# Altium footprint library HEADER_M_2x5_1.27_SMD.PcbLib: 1 footprints
Each footprint in its own frame and in the unit in brackets; x right, y up, seen from the top. Pads: shape width x height; smd on the part's side, far side on the other; paste and mask are expansions set on the pad; w line width, h text height; cw(c..) or ccw(c..) is an arc to the next point about the centre after c.
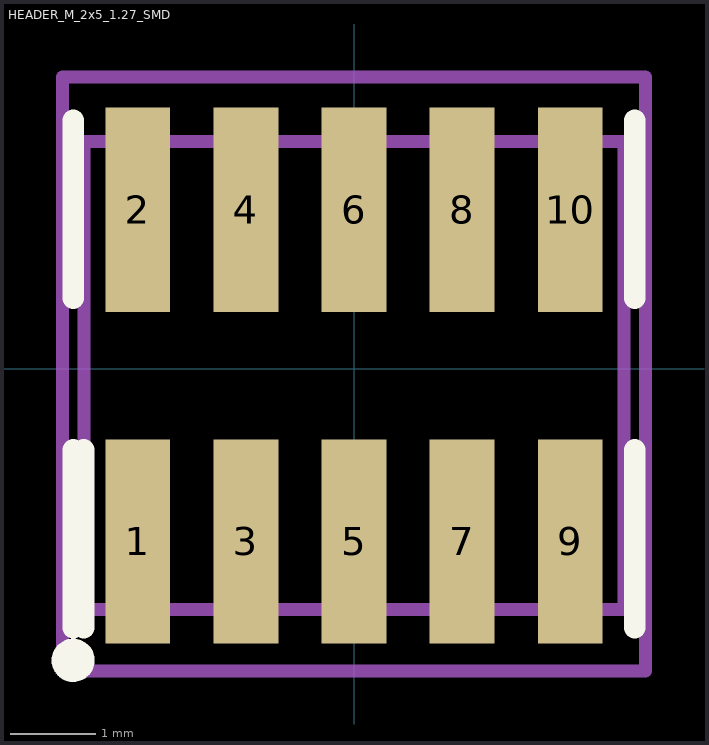
[diagram p0: the footprint, top view; thin cyan lines are the x and y axes]

## HEADER_M_2x5_1.27_SMD [mm]
pads (10):
  rect 0.76x2.4 smd: 1(-2.54,-2.032) 2(-2.54,1.868) 3(-1.27,-2.032) 4(-1.27,1.868) 5(0,-2.032) 6(0,1.868) 7(1.27,-2.032) 8(1.27,1.868) 9(2.54,-2.032) 10(2.54,1.868)
Top Overlay:
  circle w0.254: c-3.302,-3.429 r0.127
  lines w0.254: -3.302,-3.048 -3.302,-0.957 ; -3.302,0.83 -3.302,2.921 ; -3.175,-3.048 -3.175,-0.957 ; 3.302,-3.048 3.302,-0.957 ; 3.302,0.83 3.302,2.921
Mechanical 13:
  lines w0.152: -3.175,2.667 -3.175,-2.833 3.175,-2.833 ; -3.175,2.667 3.175,2.667 ; -3.175,2.667 3.175,2.667 ; 3.175,-2.833 3.175,2.667 ; 3.175,-2.833 3.175,-2.833 ; 3.175,2.667 3.175,2.667
Mechanical 15:
  lines w0.152: -3.429,-3.556 -3.429,3.429 3.429,3.429 3.429,-3.556 -3.429,-3.556
Mechanical 17:
  text "'.Designator'" at -3.048,-0.508 h0.76
3D body "User Library-RM127_10pin_Header.step": height 4.51, standoff 0.01, extent -3.175,-2.833 3.175,2.667